# EAGLE library part WE-LAN_1000_BASETX_74902001X_749023010 (library Wuerth_Elektronik_eiSos_ v6.0)
LAN-Transformer WE-LAN 1000 Base Tx - Compliant with IEEE 802.3 standards - SMD -- Ethernet -- Power over Ethernet -- 1 Gigabit Ethernet -- Compliant with most IC's for ethernet applications like Intel, AMD, Globespan and Realtek -- Hub, Router, Switch
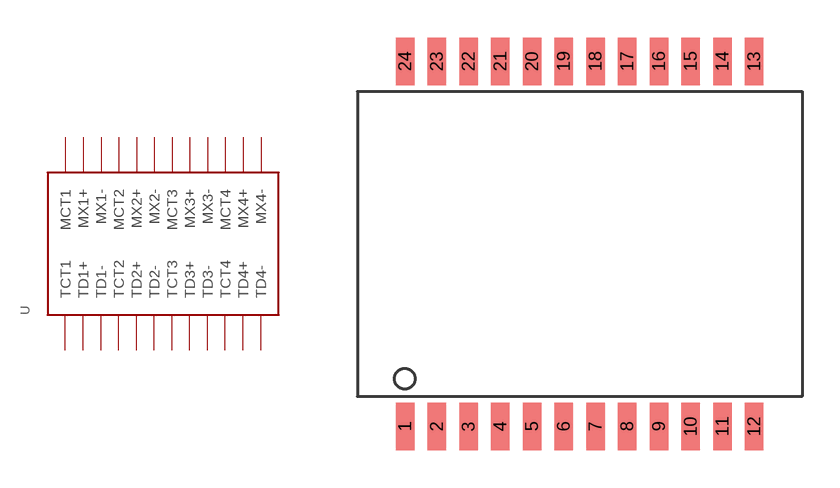
[diagram p34: symbol with the pads of WE-LAN_1000_BASETX_74902001X_749023010*; footprint WE-LAN_1000_BASETX_74902001X_749023010*]

Designator prefix -

## WE-LAN_1000_BASETX_74902001X_749023010  [WE-LAN_1000_BASETX_74902001X_749023010*]
1  TCT1  pas
2  TD1+  pas
3  TD1-  pas
4  TCT2  pas
5  TD2+  pas
6  TD2-  pas
7  TCT3  pas
8  TD3+  pas
9  TD3-  pas
10  TCT4  pas
11  TD4+  pas
12  TD4-  pas
13  MX4-  pas
14  MX4+  pas
15  MCT4  pas
16  MX3-  pas
17  MX3+  pas
18  MCT3  pas
19  MX2-  pas
20  MX2+  pas
21  MCT2  pas
22  MX1-  pas
23  MX1+  pas
24  MCT1  pas

## Footprint WE-LAN_1000_BASETX_74902001X_749023010* (pad centres in mm)
WE-LAN 1000 BaseTx
smd 0.74 x 1.905: 1 -6.985,-7.303; 2 -5.715,-7.303; 3 -4.445,-7.303; 4 -3.175,-7.303; 5 -1.905,-7.303; 6 -0.635,-7.303; 7 0.635,-7.303; 8 1.905,-7.303; 9 3.175,-7.303; 10 4.445,-7.303; 11 5.715,-7.303; 12 6.985,-7.303; 13 6.985,7.303; 14 5.715,7.303; 15 4.445,7.303; 16 3.175,7.303; 17 1.905,7.303; 18 0.635,7.303; 19 -0.635,7.303; 20 -1.905,7.303; 21 -3.175,7.303; 22 -4.445,7.303; 23 -5.715,7.303; 24 -6.985,7.303